# EAGLE library part DM9000B (library robotter_ic)
MAC/PHY Ethernet 10/100 16bits mode pinout
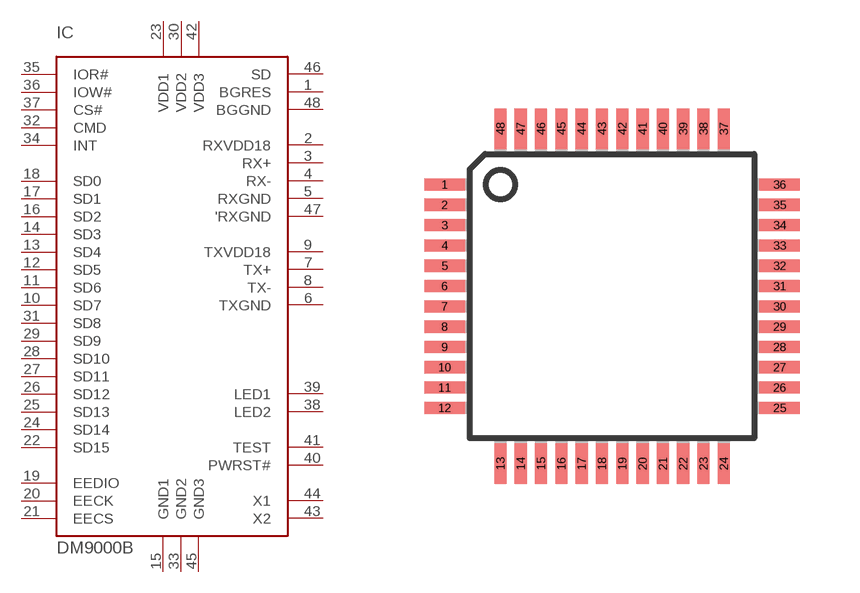
[diagram p2: symbol with the pads of TQFP48; footprint TQFP48]

Designator prefix IC

## DM9000B  [TQFP48]
1  BGRES
2  RXVDD18  pwr
3  RX+
4  RX-
5  RXGND  pwr
6  TXGND  pwr
7  TX+
8  TX-
9  TXVDD18  pwr
10  SD7
11  SD6
12  SD5
13  SD4
14  SD3
15  GND1  pwr
16  SD2
17  SD1
18  SD0
19  EEDIO
20  EECK  out
21  EECS  out
22  SD15
23  VDD1  pwr
24  SD14
25  SD13
26  SD12
27  SD11
28  SD10
29  SD9
30  VDD2  pwr
31  SD8
32  CMD  in
33  GND2  pwr
34  INT  out
35  IOR#  in
36  IOW#  in
37  CS#  in
38  LED2
39  LED1
40  PWRST#  in
41  TEST  in
42  VDD3  pwr
43  X2  out
44  X1  in
45  GND3  pwr
46  SD  in
47  'RXGND  pwr
48  BGGND  pwr

## Footprint TQFP48 (pad centres in mm)
Thin Plasic Quad Flat Package
smd 1.016 x 0.305: 1 -4.191,2.794; 2 -4.191,2.286; 3 -4.191,1.778; 4 -4.191,1.27; 5 -4.191,0.762; 6 -4.191,0.254; 7 -4.191,-0.254; 8 -4.191,-0.762; 9 -4.191,-1.27; 10 -4.191,-1.778; 11 -4.191,-2.286; 12 -4.191,-2.794; 25 4.191,-2.794; 26 4.191,-2.286; 27 4.191,-1.778; 28 4.191,-1.27; 29 4.191,-0.762; 30 4.191,-0.254; 31 4.191,0.254; 32 4.191,0.762; 33 4.191,1.27; 34 4.191,1.778; 35 4.191,2.286; 36 4.191,2.794
smd 0.305 x 1.016: 13 -2.794,-4.191; 14 -2.286,-4.191; 15 -1.778,-4.191; 16 -1.27,-4.191; 17 -0.762,-4.191; 18 -0.254,-4.191; 19 0.254,-4.191; 20 0.762,-4.191; 21 1.27,-4.191; 22 1.778,-4.191; 23 2.286,-4.191; 24 2.794,-4.191; 37 2.794,4.191; 38 2.286,4.191; 39 1.778,4.191; 40 1.27,4.191; 41 0.762,4.191; 42 0.254,4.191; 43 -0.254,4.191; 44 -0.762,4.191; 45 -1.27,4.191; 46 -1.778,4.191; 47 -2.286,4.191; 48 -2.794,4.191